# Altium footprint library Symbol.PcbLib: 206 footprints (part 12 of 15)
Each footprint in its own frame and in the unit in brackets; x right, y up, seen from the top. Pads: shape width x height; smd on the part's side, far side on the other; paste and mask are expansions set on the pad; w line width, h text height; cw(c..) or ccw(c..) is an arc to the next point about the centre after c.
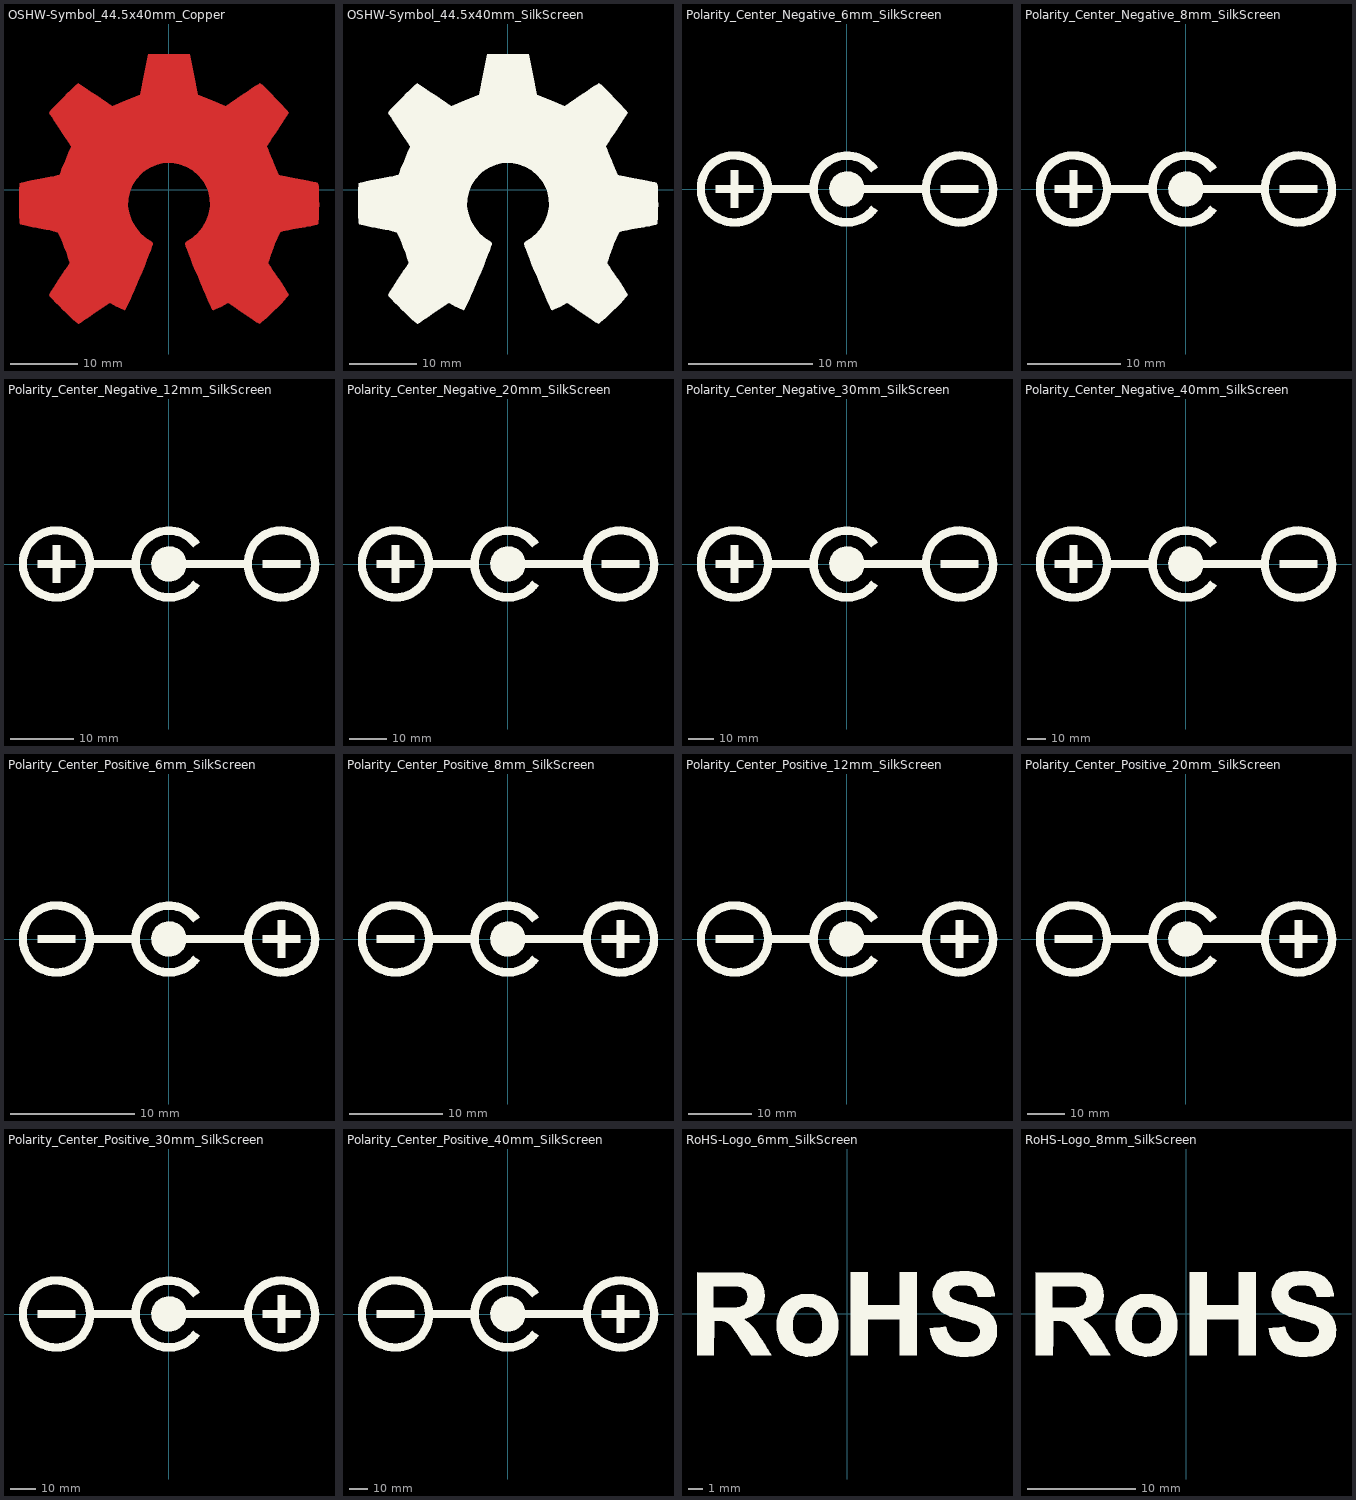
[diagram p11: the footprints below, top view; thin cyan lines are the x and y axes]

## OSHW-Symbol_44.5x40mm_Copper [mm]
F.Cu:
  region: 337 vertices and 0 holes, not listed, extent -22.067,-19.797 22.191,19.984

## OSHW-Symbol_44.5x40mm_SilkScreen [mm]
F.SilkS:
  drawing of 1 lines, arcs and shapes, not listed

## Polarity_Center_Negative_6mm_SilkScreen [mm]
F.SilkS:
  drawing of 4 lines, arcs and shapes, not listed

## Polarity_Center_Negative_8mm_SilkScreen [mm]
F.SilkS:
  drawing of 4 lines, arcs and shapes, not listed

## Polarity_Center_Negative_12mm_SilkScreen [mm]
F.SilkS:
  drawing of 4 lines, arcs and shapes, not listed

## Polarity_Center_Negative_20mm_SilkScreen [mm]
F.SilkS:
  drawing of 4 lines, arcs and shapes, not listed

## Polarity_Center_Negative_30mm_SilkScreen [mm]
F.SilkS:
  drawing of 4 lines, arcs and shapes, not listed

## Polarity_Center_Negative_40mm_SilkScreen [mm]
F.SilkS:
  drawing of 4 lines, arcs and shapes, not listed

## Polarity_Center_Positive_6mm_SilkScreen [mm]
F.SilkS:
  drawing of 4 lines, arcs and shapes, not listed

## Polarity_Center_Positive_8mm_SilkScreen [mm]
F.SilkS:
  drawing of 4 lines, arcs and shapes, not listed

## Polarity_Center_Positive_12mm_SilkScreen [mm]
F.SilkS:
  drawing of 4 lines, arcs and shapes, not listed

## Polarity_Center_Positive_20mm_SilkScreen [mm]
F.SilkS:
  drawing of 4 lines, arcs and shapes, not listed

## Polarity_Center_Positive_30mm_SilkScreen [mm]
F.SilkS:
  drawing of 4 lines, arcs and shapes, not listed

## Polarity_Center_Positive_40mm_SilkScreen [mm]
F.SilkS:
  drawing of 4 lines, arcs and shapes, not listed

## RoHS-Logo_6mm_SilkScreen [mm]
F.SilkS:
  drawing of 4 lines, arcs and shapes, not listed

## RoHS-Logo_8mm_SilkScreen [mm]
F.SilkS:
  drawing of 4 lines, arcs and shapes, not listed